# EAGLE library part MICROCHIP_MCP3909-I-SS (library Upverter Library)
CON-VFC-MCP3909-24
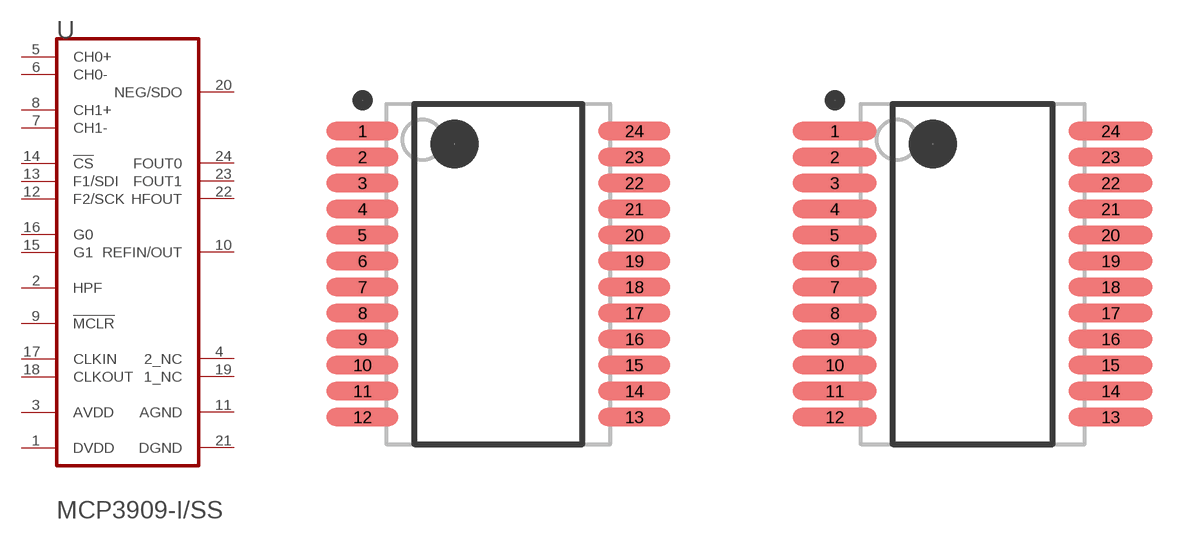
[diagram p0: symbol with the pads of MICROCHIP_MCP3909-I-SS_0; footprints MICROCHIP_MCP3909-I-SS_0, MICROCHIP_MCP3909-I-SS_1]

Designator prefix U

## MICROCHIP_MCP3909-I-SSMICROCHIP_MCP3909-I-SS_0_0 (Code__JEDEC: MO-150-AG; Component_Link_1_Description: Manufacturer URL; Component_Link_1_URL: http://www.microchip.com/; Component_Link_3_Description: Package Specification; Component_Link_3_URL: http://www.microchip.com/stellent/groups/techpub_sg/documents/packagingspec/en012702.pdf; Datasheet_Version: revB, Apr-2009; MF: Microchip; MPN: MCP3909-I/SS; Package_Description: 24-Lead Plastic Shrink Small Outline (SS) - 5.3mm Body [SSOP]; Package_Version: revBB, Aug-2009; ciiva_ids: 979383; datasheet: http://ww1.microchip.com/downloads/en/DeviceDoc/22025b.pdf; footprint_variant_name_0: Level C; footprint_variant_name_1: Level B; footprint_variant_name_2: Level A; import_ts: 1521842130; imported: yes; imported_from: vault; package: SSOP-SS24; pin_0_0_12_inside_edge: clock; prefix: U; release_date: 1331948539; vault_guid: E7361363-D8BC-4B45-BA7B-C11010A9013A; vault_revision: 2F09CA1F-F21F-4149-8405-6E46054877D0)  [MICROCHIP_MCP3909-I-SS_0]
1  DVDD  pwr
2  HPF  in
3  AVDD  pwr
4  2_NC  pas
5  CH0+  in
6  CH0-  in
7  CH1-  in
8  CH1+  in
9  !MCLR!  in
10  REFIN/OUT
11  AGND  pwr
12  F2/SCK  in
13  F1/SDI  in
14  !CS!  in
15  G1  in
16  G0  in
17  CLKIN  in
18  CLKOUT  pas
19  1_NC  pas
20  NEG/SDO  out
21  DGND  pwr
22  HFOUT  out
23  FOUT1  out
24  FOUT0  out

## MICROCHIP_MCP3909-I-SSMICROCHIP_MCP3909-I-SS_0_1 (Code__JEDEC: MO-150-AG; Component_Link_1_Description: Manufacturer URL; Component_Link_1_URL: http://www.microchip.com/; Component_Link_3_Description: Package Specification; Component_Link_3_URL: http://www.microchip.com/stellent/groups/techpub_sg/documents/packagingspec/en012702.pdf; Datasheet_Version: revB, Apr-2009; MF: Microchip; MPN: MCP3909-I/SS; Package_Description: 24-Lead Plastic Shrink Small Outline (SS) - 5.3mm Body [SSOP]; Package_Version: revBB, Aug-2009; ciiva_ids: 979383; datasheet: http://ww1.microchip.com/downloads/en/DeviceDoc/22025b.pdf; footprint_variant_name_0: Level C; footprint_variant_name_1: Level B; footprint_variant_name_2: Level A; import_ts: 1521842130; imported: yes; imported_from: vault; package: SSOP-SS24; pin_0_0_12_inside_edge: clock; prefix: U; release_date: 1331948539; vault_guid: E7361363-D8BC-4B45-BA7B-C11010A9013A; vault_revision: 2F09CA1F-F21F-4149-8405-6E46054877D0)  [MICROCHIP_MCP3909-I-SS_1]
Pads as for MICROCHIP_MCP3909-I-SS_0

## MICROCHIP_MCP3909-I-SSMICROCHIP_MCP3909-I-SS_0_2 (Code__JEDEC: MO-150-AG; Component_Link_1_Description: Manufacturer URL; Component_Link_1_URL: http://www.microchip.com/; Component_Link_3_Description: Package Specification; Component_Link_3_URL: http://www.microchip.com/stellent/groups/techpub_sg/documents/packagingspec/en012702.pdf; Datasheet_Version: revB, Apr-2009; MF: Microchip; MPN: MCP3909-I/SS; Package_Description: 24-Lead Plastic Shrink Small Outline (SS) - 5.3mm Body [SSOP]; Package_Version: revBB, Aug-2009; ciiva_ids: 979383; datasheet: http://ww1.microchip.com/downloads/en/DeviceDoc/22025b.pdf; footprint_variant_name_0: Level C; footprint_variant_name_1: Level B; footprint_variant_name_2: Level A; import_ts: 1521842130; imported: yes; imported_from: vault; package: SSOP-SS24; pin_0_0_12_inside_edge: clock; prefix: U; release_date: 1331948539; vault_guid: E7361363-D8BC-4B45-BA7B-C11010A9013A; vault_revision: 2F09CA1F-F21F-4149-8405-6E46054877D0)  [MICROCHIP_MCP3909-I-SS_2]
Pads as for MICROCHIP_MCP3909-I-SS_0

## Footprint MICROCHIP_MCP3909-I-SS_0 (pad centres in mm)
CON-VFC-MCP3909-24
smd 1.8 x 0.45: 1 -3.4,3.575; 2 -3.4,2.925; 3 -3.4,2.275; 4 -3.4,1.625; 5 -3.4,0.975; 6 -3.4,0.325; 7 -3.4,-0.325; 8 -3.4,-0.975; 9 -3.4,-1.625; 10 -3.4,-2.275; 11 -3.4,-2.925; 12 -3.4,-3.575; 13 3.4,-3.575; 14 3.4,-2.925; 15 3.4,-2.275; 16 3.4,-1.625; 17 3.4,-0.975; 18 3.4,-0.325; 19 3.4,0.325; 20 3.4,0.975; 21 3.4,1.625; 22 3.4,2.275; 23 3.4,2.925; 24 3.4,3.575

## Footprint MICROCHIP_MCP3909-I-SS_1 (pad centres in mm)
CON-VFC-MCP3909-24
smd 2.1 x 0.45: 1 -3.45,3.575; 2 -3.45,2.925; 3 -3.45,2.275; 4 -3.45,1.625; 5 -3.45,0.975; 6 -3.45,0.325; 7 -3.45,-0.325; 8 -3.45,-0.975; 9 -3.45,-1.625; 10 -3.45,-2.275; 11 -3.45,-2.925; 12 -3.45,-3.575; 13 3.45,-3.575; 14 3.45,-2.925; 15 3.45,-2.275; 16 3.45,-1.625; 17 3.45,-0.975; 18 3.45,-0.325; 19 3.45,0.325; 20 3.45,0.975; 21 3.45,1.625; 22 3.45,2.275; 23 3.45,2.925; 24 3.45,3.575

## Footprint MICROCHIP_MCP3909-I-SS_2 (pad centres in mm)
CON-VFC-MCP3909-24
smd 2.4 x 0.45: 1 -3.5,3.575; 2 -3.5,2.925; 3 -3.5,2.275; 4 -3.5,1.625; 5 -3.5,0.975; 6 -3.5,0.325; 7 -3.5,-0.325; 8 -3.5,-0.975; 9 -3.5,-1.625; 10 -3.5,-2.275; 11 -3.5,-2.925; 12 -3.5,-3.575; 13 3.5,-3.575; 14 3.5,-2.925; 15 3.5,-2.275; 16 3.5,-1.625; 17 3.5,-0.975; 18 3.5,-0.325; 19 3.5,0.325; 20 3.5,0.975; 21 3.5,1.625; 22 3.5,2.275; 23 3.5,2.925; 24 3.5,3.575